# EAGLE library part 12PIN_TERMINAL_BLOCK (library 12pinTerminalBlock)
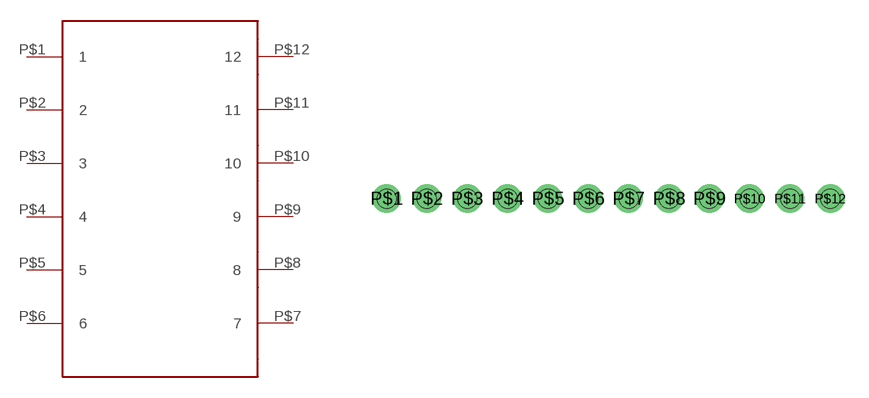
[diagram p0: symbol with the pads of 12PIN_TERMINAL_BLOCK; footprint 12PIN_TERMINAL_BLOCK]

Designator prefix -

## 12PIN_TERMINAL_BLOCK  [12PIN_TERMINAL_BLOCK]
P$1  1
P$2  2
P$3  3
P$4  4
P$5  5
P$6  6
P$7  7
P$8  8
P$9  9
P$10  10
P$11  11
P$12  12

## Footprint 12PIN_TERMINAL_BLOCK (pad centres in mm)
drill 1.2: P$1 -12.7,0; P$2 -10.16,0; P$3 -7.62,0; P$4 -5.08,0; P$5 -2.54,0; P$6 0,0; P$7 2.54,0; P$8 5.08,0; P$9 7.62,0; P$10 10.16,0; P$11 12.7,0; P$12 15.24,0
hole 1.2 at -12.7,0
hole 1.2 at -10.16,0
hole 1.2 at -7.62,0
hole 1.2 at -5.08,0
hole 1.2 at -2.54,0
hole 1.2 at 0,0
hole 1.2 at 2.54,0
hole 1.2 at 5.08,0
hole 1.2 at 7.62,0
hole 1.2 at 10.16,0
hole 1.2 at 12.7,0
hole 1.2 at 15.24,0